# Altium schematic symbol library NtentePoC.SchLib: 37 symbols (part 1 of 2)
Pins are listed as number, name and electrical type; pins without a type are passive.

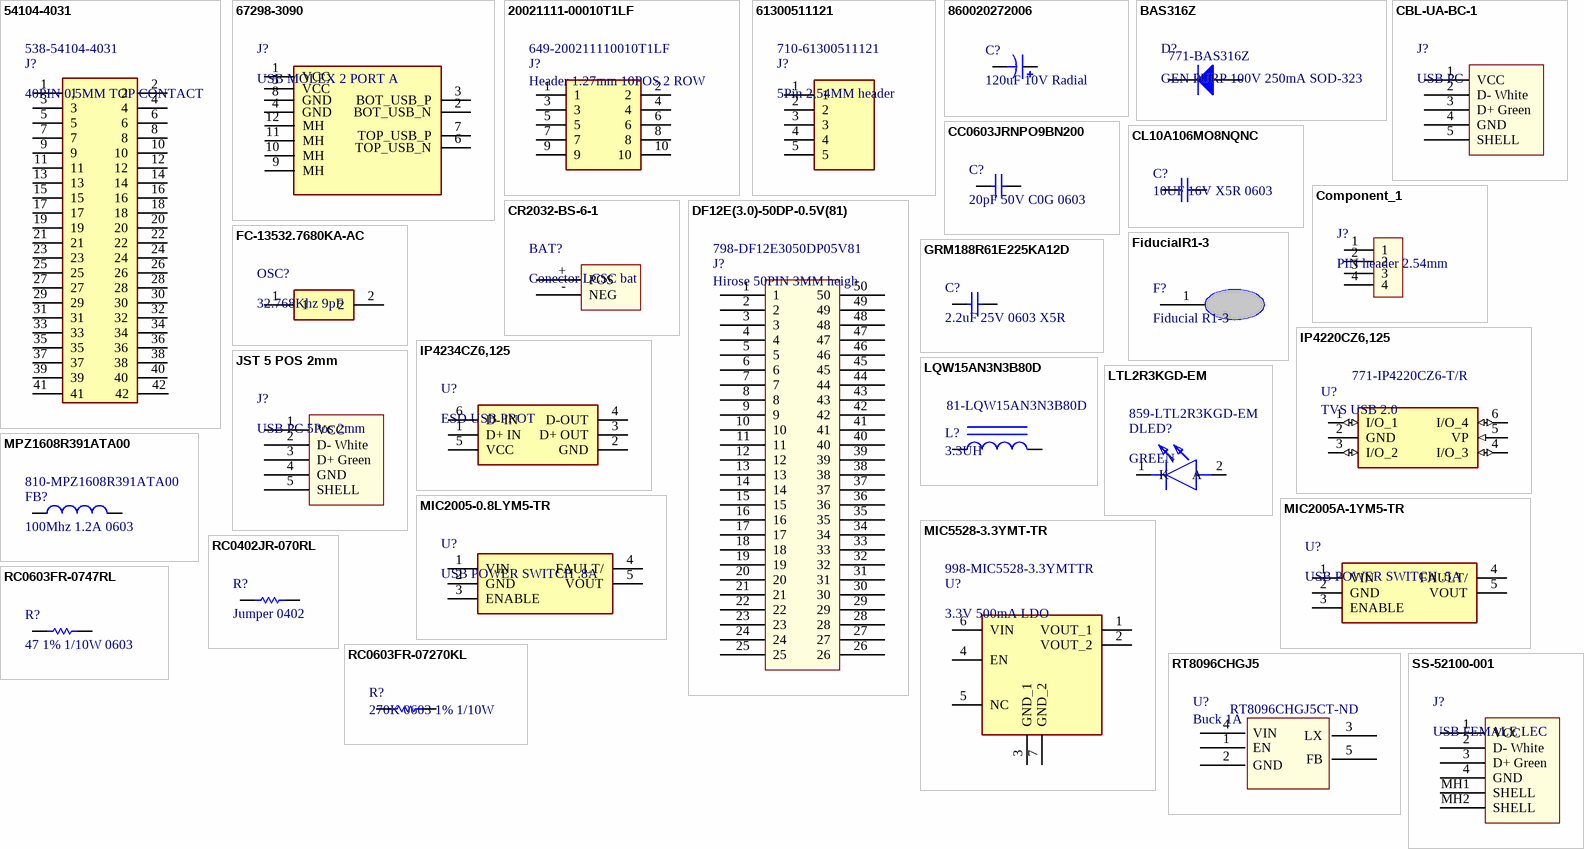
[diagram p0: symbols 54104-4031 to SS-52100-001]

## 54104-4031
designator J?, comment 40PIN 0,5MM TOP CONTACT  Supplier Part Number 1: 538-54104-4031
Conn FPC Connector SKT 40 POS 0.5mm Solder RA SMD Easy-On™ T/R; Manufacturer: Molex; Manufacturer Part Number: 54104-4031; Actuator Material: Glass,Polyphenylene; Voltage Rating: 50V; Contact Resistance: 20mR; Current Rating: 500mA; Number of Positions: 40; Wire/Cable Type: Straight; Mating Cycles: 20; Supplier 1: Mouser; RoHS: Yes; Category: FFC / FPC; Stock 1: 6306; Mount: Surface Mount; Contact Material: Bronze; Contact Plating: Gold; Housing Color: Natural; Housing Material: Nylon; Min Operating Temperature: -20°C; Max Operating Temperature: 85°C; Packaging: Tape and Reel; Number of Rows: 1; Termination: Solder; Orientation: Right Angle; Package Quantity: 1500; Length: 25.5mm; Pitch: 0.5mm; Depth: 5.6mm; Radiation Hardening: No; Flammability Rating: UL94 V-0; ComponentLink1URL: https://datasheet.ciiva.com/671/541045031-sd-671622.pdf?src-supplier=Digi-Key; ComponentLink1Description: https://datasheet.ciiva.com/671/541045031-sd-671622.pdf?src-supplier=Digi-Key; ComponentLink2URL: https://datasheet.ciiva.com/16468/0541044031-ffc-fpc-connectors-16468800.pdf?src-supplier=Avnet+Asia; ComponentLink2Description: https://datasheet.ciiva.com/16468/0541044031-ffc-fpc-connectors-16468800.pdf?src-supplier=Avnet+Asia; ComponentLink3URL: https://datasheet.ciiva.com/26934/getdatasheetpartid-757648-26934644.pdf?src-supplier=Verical; ComponentLink3Description: https://datasheet.ciiva.com/26934/getdatasheetpartid-757648-26934644.pdf?src-supplier=Verical; ComponentLink4URL: https://datasheet.ciiva.com/25291/1597087-25291974.pdf?src-supplier=Newark; ComponentLink4Description: https://datasheet.ciiva.com/25291/1597087-25291974.pdf?src-supplier=Newark; ComponentLink5URL: https://datasheet.ciiva.com/11745/0900766b80d5c350-11745166.pdf?src-supplier=RSComponents; ComponentLink5Description: https://datasheet.ciiva.com/11745/0900766b80d5c350-11745166.pdf?src-supplier=RSComponents; ComponentLink6URL: https://datasheet.ciiva.com/10366/0541044031-ffc-fpc-connectors-10366824.pdf?src-supplier=Avnet; ComponentLink6Description: https://datasheet.ciiva.com/10366/0541044031-ffc-fpc-connectors-10366824.pdf?src-supplier=Avnet; ComponentLink7URL: https://datasheet.ciiva.com/672/541044031-sd-672267.pdf?src-supplier=Digi-Key; ComponentLink7Description: https://datasheet.ciiva.com/672/541044031-sd-672267.pdf?src-supplier=Digi-Key; ComponentLink8URL: https://datasheet.ciiva.com/672/541044031-sd-672268.pdf?src-supplier=Digi-Key; ComponentLink8Description: https://datasheet.ciiva.com/672/541044031-sd-672268.pdf?src-supplier=Digi-Key
footprint 54104-4031
pins: 1, 2, 3, 4, 5, 6, 7, 8, 9, 10, 11, 12, 13, 14, 15, 16, 17, 18, 19, 20, 21, 22, 23, 24, 25, 26, 27, 28, 29, 30, 31, 32, 33, 34, 35, 36, 37, 38, 39, 40, 41, 42

## 67298-3090
designator J?, comment USB MOLEX 2 PORT A
Connector Moles type A 2 puertos; Manufacturer_Part_Number: 67298-3090; Datasheet Link: http://docs-emea.rs-online.com/webdocs/13c4/0900766b813c46d1.pdf; Manufacturer_Name: Molex; Mouser Part Number: 538-67298-3090; Mouser Price/Stock: https://www.mouser.com/Search/Refine.aspx?Keyword=538-67298-3090; RS Part Number: 8006848; RS Price/Stock: https://uk.rs-online.com/web/p/products/8006848
footprint MOLEX-DUALUSB
pins: 1 VCC, 2 BOT_USB_N, 3 BOT_USB_P, 4 GND, 5 VCC, 6 TOP_USB_N, 7 TOP_USB_P, 8 GND, 9 MH, 10 MH, 11 MH, 12 MH

## 20021111-00010T1LF
designator J?, comment Header 1.27mm 10POS 2 ROW  Supplier Part Number 1: 649-200211110010T1LF
Conn Unshrouded Header HDR 10 POS 1.27mm Solder ST Thru-Hole Tube; Manufacturer 1: Amphenol FCI; Manufacturer Part Number 1: 20021111-00010T1LF; Number of Contacts: 10; Contact Resistance: 30mR; Max Voltage Rating (AC): 125V; Connector Type: Male Pin; Row Spacing: 0.05inch; Contact Post Length: 2.3mm; Supplier 1: Mouser; Stock 1: 552; Pricing 1: 1=0,62000, 10=0,46900, 100=0,44900, 500=0,39100, 1000=0,32200, 2500=0,29300, 5000=0,28300 (USD); RoHS: Yes; Mount: Through Hole; Contact Plating: Gold; Color: Black; Contact Material: Copper Alloy; Housing Color: Black; Housing Material: Thermoplastic; Min Operating Temperature: -40°C; Max Operating Temperature: 85°C; Number of Rows: 2; Termination: Solder; Package Quantity: 93; Packaging: Rail/Tube; Number of Positions: 10; Orientation: Straight; Length: 6.35mm; Pitch: 1.27mm; Contact Mating Length: 0.12inch; Depth: 3.4mm; ComponentLink1URL: http://www.mouser.com/ds/2/154/minitek127_catalogue-79600.pdf?src-supplier=Mouser; ComponentLink1Description: http://www.mouser.com/ds/2/154/minitek127_catalogue-79600.pdf?src-supplier=Mouser; ComponentLink2URL: http://components.arrow.com/part/dataview/0323_00886572?src-supplier=Arrow+Europe; ComponentLink2Description: http://components.arrow.com/part/dataview/0323_00886572?src-supplier=Arrow+Europe; ComponentLink3URL: http://components.arrow.com/part/dataview/48961252S8521297N8314?src-supplier=Arrow; ComponentLink3Description: http://components.arrow.com/part/dataview/48961252S8521297N8314?src-supplier=Arrow; ComponentLink4URL: http://portal.fciconnect.com/Comergent//fci/drawing/20021111.pdf?src-supplier=Digi-Key; ComponentLink4Description: http://portal.fciconnect.com/Comergent//fci/drawing/20021111.pdf?src-supplier=Digi-Key; ComponentLink5URL: http://portal.fciconnect.com/Comergent/fci/drawing/20021111.pdf?src-supplier=Avnet; ComponentLink5Description: http://portal.fciconnect.com/Comergent/fci/drawing/20021111.pdf?src-supplier=Avnet
footprint 20021111-00010T1LF
pins: 1, 2, 3, 4, 5, 6, 7, 8, 9, 10

## 61300511121
designator J?, comment 5Pin 2,54MM header  Supplier Part Number 1: 710-61300511121
WURTH ELEKTRONIK - 61300511121 - Pin Header, Board-to-Board, 2.54 mm, 1 Rows, 5 Contacts, Through Hole, WR-PHD Series; Manufacturer: Wurth Electronics; Number of Positions: 5; Gender: Male; Connector Type: Male Pin; Pitch: 0.1inch; Supplier 1: Mouser; Manufacturer Part Number: 61300511121; RoHS: Yes; Category: Connectors; Stock 1: 10312; Mount: Through Hole; Contact Plating: Gold; Contact Material: Copper; Color: Black; Number of Rows: 1; Packaging: Bulk; Termination: Solder; Number of Contacts: 5; Contact Mating Length: 0.236inch; REACH SVHC: Unknown; Lead Free: Lead Free; ComponentLink1URL: https://katalog.we-online.de/em/datasheet/6130xx11121.pdf?src-supplier=Digi-Key; ComponentLink1Description: https://katalog.we-online.de/em/datasheet/6130xx11121.pdf?src-supplier=Digi-Key; ComponentLink2URL: http://www.farnell.com/cad/1737268.pdf?src-supplier=Element14; ComponentLink2Description: http://www.farnell.com/cad/1737268.pdf?src-supplier=Element14
footprint 61300511121
pins: 1, 2, 3, 4, 5

## 860020272006
designator C?, comment 120uF 10V Radial
CAP ALUM 120UF 20% 10V RADIAL; Manufacturer: Wurth Electronics; Manufacturer Part Number: 860020272006; Polarity: Polar; Ripple Current: 110mA; Life (Hours): 2000Hour; Supplier 1: Mouser; Stock 1: 3882; Pricing 1: 1=0.12, 10=0.12, 50=0.104, 100=0.09, 1000=0.067, 10000=0.067 (USD); Mount: Through Hole; Case/Package: Radial; Min Operating Temperature: -40°C; Max Operating Temperature: 105°C; Package Quantity: 2000; Packaging: Tape and Reel; Capacitance: 120uF; Voltage Rating: 10V; Tolerance: 20%; Lead Pitch: 0.079inch; Height - Seated (Max): 0.492inch; Supplier Part Number 1: 710-860020272006
footprint Radial 860020272006
pins: 1 +, 2 -

## BAS316Z
designator D?, comment GEN PURP 100V 250mA SOD-323  Supplier Part Number 1: 771-BAS316Z
DIODE GEN PURP 100V 250MA SC76-2; Manufacturer: Nexperia; Manufacturer Part Number: BAS316Z; Supplier 1: Mouser; RoHS: No; Stock 1: 37210; Pricing 1: 1 = 0.14000, 10 = 0.11900, 50 = 0.11900, 100 = 0.04200, 1000 = 0.02800, 10000 = 0.01900 (USD); ComponentLink1URL: https://assets.nexperia.com/documents/data-sheet/BAS16_SER.pdf?src-supplier=Digi-Key; ComponentLink1Description: https://assets.nexperia.com/documents/data-sheet/BAS16_SER.pdf?src-supplier=Digi-Key
footprint SOD-323
pins: 1 K, 2 A

## CBL-UA-BC-1
designator J?, comment USB PC
USB Cable, Type A Plug to Blunt Cut Cable, 28 AWG, 1 m, Black, PVC; Manufacturer: CUI; Manufacturer Part Number: CBL-UA-BC-1; Supplier 1: Mouser; Stock 1: 468; Pricing 1: 1 = 1.84000, 10 = 1.66000, 50 = 1.50000, 100 = 1.43000, 1000 = 1.02000, 10000 = 0.95400 (USD); ComponentLink1URL: http://datasheet.octopart.com/CBL-UA-BC-1-CUI-datasheet-127148343.pdf?src-supplier=CUI; ComponentLink1Description: http://datasheet.octopart.com/CBL-UA-BC-1-CUI-datasheet-127148343.pdf?src-supplier=CUI; Supplier Part Number 1: 490-CBL-UA-BC-1
footprint CBL-UA-BC-1
pins: 1 VCC, 2 D- White, 3 D+ Green, 4 GND, 5 SHELL

## CC0603JRNPO9BN200
designator C?, comment 20pF 50V C0G 0603
CAP CER 20PF 50V C0G/NPO 0603; Manufacturer: Yageo; Manufacturer Part Number: CC0603JRNPO9BN200; Tolerance: 5%; Supplier 1: Mouser; RoHS: Yes; Stock 1: 54304; Pricing 1: 1 = 0,10000, 10 = 0,05900, 50 = 0,05900, 100 = 0,02600, 1000 = 0,02100, 10000 = 0,01400 (USD); Mount: Surface Mount; Case/Package: 0603; Number of Pins: 2; Weight: 7.1E-05oz; Case Code (Imperial): 0603; Case Code (Metric): 1608; Min Operating Temperature: -55°C; Max Operating Temperature: 125°C; Capacitance: 20pF; Package Quantity: 4000; Voltage Rating (DC): 50V; Packaging: Tape and Reel; Voltage Rating: 50V; Dielectric: C0G; Termination: SMD/SMT; Composition: Ceramic; Length: 1.6mm; Width: 0.8mm; Thickness: 0.035inch; Depth: 0.8mm; REACH SVHC: Unknown; Lead Free: Lead Free; ComponentLink1URL: https://datasheet.ciiva.com/7978/1132289-7978134.pdf?src-supplier=Element14; ComponentLink1Description: https://datasheet.ciiva.com/7978/1132289-7978134.pdf?src-supplier=Element14; ComponentLink2URL: https://datasheet.ciiva.com/176/mlccorderingcode-176538.pdf?src-supplier=Digi-Key; ComponentLink2Description: https://datasheet.ciiva.com/176/mlccorderingcode-176538.pdf?src-supplier=Digi-Key; ComponentLink3URL: https://datasheet.ciiva.com/176/mlccorderingcode-176539.pdf?src-supplier=Digi-Key; ComponentLink3Description: https://datasheet.ciiva.com/176/mlccorderingcode-176539.pdf?src-supplier=Digi-Key; ComponentLink4URL: https://datasheet.ciiva.com/176/mlccorderingcode-176540.pdf?src-supplier=Digi-Key; ComponentLink4Description: https://datasheet.ciiva.com/176/mlccorderingcode-176540.pdf?src-supplier=Digi-Key; Supplier Part Number 1: 603-C0603JRNPO9BN200
footprint C 0603/1608
pins: 1, 2

## CL10A106MO8NQNC
designator C?, comment 10UF 16V X5R 0603
CAP CER 10UF 16V X5R 0603; Manufacturer 1: Samsung; Manufacturer Part Number 1: CL10A106MO8NQNC; Material: Ceramic; Tolerance: 20%; Supplier 1: Digi-Key; Stock 1: 153308; Pricing 1: 1=1,37000, 10=1,08200, 100=0,81120, 500=0,61290, 1000=0,54079 (USD); RoHS: Yes; Mount: Surface Mount; Case/Package: 0603; Case Code (Metric): 1608; Case Code (Imperial): 0603; Min Operating Temperature: -55°C; Max Operating Temperature: 85°C; Capacitance: 10uF; Dielectric: X5R; Packaging: Tape and Reel; Voltage Rating: 16V; Length: 1.6mm; Height: 0.8mm; Width: 0.031inch; Thickness: 0.035inch; Depth: 0.8mm; Radiation Hardening: No; Lead Free: Lead Free; ComponentLink1URL: https://datasheet.ciiva.com/25711/cl10a106mo8nqnc-25711536.pdf?src-supplier=Digi-Key; ComponentLink1Description: https://datasheet.ciiva.com/25711/cl10a106mo8nqnc-25711536.pdf?src-supplier=Digi-Key; ComponentLink2URL: https://datasheet.ciiva.com/26838/getdatasheetpartid-746571-26838345.pdf?src-supplier=Verical; ComponentLink2Description: https://datasheet.ciiva.com/26838/getdatasheetpartid-746571-26838345.pdf?src-supplier=Verical; ComponentLink3URL: https://datasheet.ciiva.com/29198/457342-da-01-en-vs-kondensator-0603-29198787.pdf?src-supplier=Conrad; ComponentLink3Description: https://datasheet.ciiva.com/29198/457342-da-01-en-vs-kondensator-0603-29198787.pdf?src-supplier=Conrad; Supplier Part Number 1: 1276-1870-1-ND
footprint C 0603/1608
pins: 1, 2

## Component_1
designator J?, comment PIN header 2.54mm
4 in ROW ad manual
footprint Header 4Pos 2.54mm
pins: 1, 2, 3, 4

## CR2032-BS-6-1
designator BAT?, comment Conector LCSC bat
https://lcsc.com/product-detail/Battery-Holders-Clips-Contacts_Button-battery-holder-CR2032_C70377.html
footprint CR2032-BS-6-1 (LCSC https://lcsc.com/product-detail/Battery-Holders-Clips-Contacts_Button-battery-holder-CR2032_C70377.html)
pins: + POS, - NEG

## DF12E(3.0)-50DP-0.5V(81)
designator J?, comment Hirose 50PIN 3MM heigh  Supplier Part Number 1: 798-DF12E3050DP05V81
CONN HEADER 50POS 3MM SMD 0.5MM; Manufacturer Part Number 1: DF12E(3.0)-50DP-0.5V(81); Current Rating: 300mA; Number of Positions: 50; Voltage Rating: 50V; Gender: Male; Supplier 1: Mouser; Manufacturer 1: Hirose; Stock 1: 1511; Pricing 1: 1=2,27000, 10=2,02000, 25=1,85000, 100=1,77000, 250=1,60000, 500=1,48000 (USD); RoHS: Yes; Mount: Surface Mount; Contact Plating: Gold; Contact Material: Copper,Copper Alloy; Housing Color: Beige; Housing Material: Polyamide; Number of Rows: 2; Termination: Solder; Package Quantity: 1; Packaging: Tape and Reel; Number of Contacts: 50; Orientation: Straight; Pitch: 0.5mm; Mated Stacking Heights: 3mm; Radiation Hardening: No; Lead Free: Lead Free; Flammability Rating: UL94 V-0; REACH SVHC: No SVHC; ComponentLink1URL: https://datasheet.ciiva.com/11746/0900766b8118d31d-11746934.pdf?src-supplier=RSComponents; ComponentLink1Description: https://datasheet.ciiva.com/11746/0900766b8118d31d-11746934.pdf?src-supplier=RSComponents; ComponentLink2URL: https://datasheet.ciiva.com/5131/en-df12-20130411-5131336.pdf?src-supplier=Mouser; ComponentLink2Description: https://datasheet.ciiva.com/5131/en-df12-20130411-5131336.pdf?src-supplier=Mouser; ComponentLink3URL: https://datasheet.ciiva.com/16431/en-df12-20130411-16431976.pdf?src-supplier=Future+Electronics; ComponentLink3Description: https://datasheet.ciiva.com/16431/en-df12-20130411-16431976.pdf?src-supplier=Future+Electronics; ComponentLink4URL: https://datasheet.ciiva.com/22645/1693461-22645083.pdf?src-supplier=Element14; ComponentLink4Description: https://datasheet.ciiva.com/22645/1693461-22645083.pdf?src-supplier=Element14
footprint DF12E(3.0)-50DP-0.5V(81)
pins: 1, 2, 3, 4, 5, 6, 7, 8, 9, 10, 11, 12, 13, 14, 15, 16, 17, 18, 19, 20, 21, 22, 23, 24, 25, 26, 27, 28, 29, 30, 31, 32, 33, 34, 35, 36, 37, 38, 39, 40, 41, 42, 43, 44, 45, 46, 47, 48, 49, 50

## FC-13532.7680KA-AC
designator OSC?, comment 32.768Khz 9pF
CRYSTAL 32.7680KHZ 9PF SMD; Manufacturer: Epson; Manufacturer Part Number: FC-13532.7680KA-AC; ESR (Equivalent Series Resistance): 70kR; Frequency Tolerance: 20ppm; Supplier 1: Mouser; RoHS: Yes; Stock 1: 509; Pricing 1: 1 = 0,38000, 10 = 0,31300, 50 = 0,28200, 100 = 0,25000, 1000 = 0,20000, 10000 = 0,17500 (USD); Mount: Surface Mount; Case/Package: SMD/SMT; Weight: 0.000564oz; Min Operating Temperature: -40°C; Max Operating Temperature: 85°C; Load Capacitance: 9pF; Packaging: Bulk; Frequency: 32.768kHz; Tolerance: 20ppm; Package Quantity: 1; Termination: SMD/SMT; Length: 0.126inch; Height: 0.035inch; Width: 0.059inch; ComponentLink1URL: http://www.mouser.com/ds/2/137/1699449-465441.pdf?src-supplier=Mouser; ComponentLink1Description: http://www.mouser.com/ds/2/137/1699449-465441.pdf?src-supplier=Mouser; ComponentLink2URL: https://support.epson.biz/td/api/doc_check.php?dl=brief_FC-135&lang=en&src-supplier=Digi-Key; ComponentLink2Description: https://support.epson.biz/td/api/doc_check.php?dl=brief_FC-135&lang=en&src-supplier=Digi-Key; ComponentLink3URL: https://support.epson.biz/td/api/doc_check.php?dl=brief_FC-135R_en.pdf&src-supplier=Digi-Key; ComponentLink3Description: https://support.epson.biz/td/api/doc_check.php?dl=brief_FC-135R_en.pdf&src-supplier=Digi-Key; Supplier Part Number 1: 732-FC-13532.768KAAC
footprint FC135327680KAAG0
pins: 1, 2

## FiducialR1-3
designator F?, comment Fiducial R1-3  (no BOM)
Fiducial 1mm 3 mm of peel mask
footprint Fiducial R1-3
pins: 1

## GRM188R61E225KA12D
designator C?, comment 2.2uF 25V 0603 X5R
MURATA - GRM188R61E225KA12D - CONDENSATEUR, 2.2µF, 25V, 10%, X5R, 0603; Material: Ceramic; Supplier 1: Mouser; Manufacturer: Murata; Manufacturer Part Number: GRM188R61E225KA12D; RoHS: Yes; Stock 1: 345006; Pricing 1: 1 = 0,17000, 10 = 0,12200, 50 = 0,12200, 100 = 0,05700, 1000 = 0,03300, 10000 = 0,02300 (USD); Mount: Surface Mount; Case/Package: 0603; Number of Pins: 2; Weight: 0.000222oz; Case Code (Metric): 1608; Case Code (Imperial): 0603; Min Operating Temperature: -55°C; Max Operating Temperature: 85°C; Capacitance: 2.2uF; Tolerance: 10%; Dielectric: X5R; Voltage Rating: 25V; Packaging: Tape and Reel; Voltage: 25V; Termination: SMD/SMT; Composition: Ceramic; Voltage Rating (DC): 25V; Package Quantity: 4000; Length: 1.6mm; Height: 0.8mm; Width: 0.8mm; Thickness: 0.035inch; Depth: 0.8mm; Radiation Hardening: No; REACH SVHC: No SVHC; Lead Free: Lead Free; ComponentLink1URL: https://datasheet.ciiva.com/22706/1747460-22706787.pdf?src-supplier=Element14; ComponentLink1Description: https://datasheet.ciiva.com/22706/1747460-22706787.pdf?src-supplier=Element14; ComponentLink2URL: https://datasheet.ciiva.com/7719/1747460-7719045.pdf?src-supplier=Element14; ComponentLink2Description: https://datasheet.ciiva.com/7719/1747460-7719045.pdf?src-supplier=Element14; ComponentLink3URL: https://datasheet.ciiva.com/14116/grmseries-highdielectrictype-eng-14116409.pdf?src-supplier=Distrelec; ComponentLink3Description: https://datasheet.ciiva.com/14116/grmseries-highdielectrictype-eng-14116409.pdf?src-supplier=Distrelec; Supplier Part Number 1: 81-GRM188R61E225KA2D
footprint C 0603/1608
pins: 1, 2

## IP4220CZ6,125
designator U?, comment TVS USB 2.0  Supplier Part Number 1: 771-IP4220CZ6-T/R
TVS DIODE 5.5V 6TSOP; Manufacturer 1: Philips; Manufacturer Part Number 1: IP4220CZ6,125; Breakdown Voltage: 9V; Supplier 1: Mouser; RoHS: No; Category: Rectifier Diodes; Stock 1: 58080; Pricing 1: 1=0,40000, 10=0,31100, 100=0,16800, 1000=0,12600, 3000=0,10900, 9000=0,10200 (USD); Case/Package: SC; Packaging: Cut Tape; REACH SVHC: No SVHC; Lead Free: Lead Free; ComponentLink1URL: http://www.farnell.com/datasheets/1708221.pdf?src-supplier=Farnell; ComponentLink1Description: http://www.farnell.com/datasheets/1708221.pdf?src-supplier=Farnell; ComponentLink2URL: http://www.farnell.com/datasheets/1708221.pdf?src-supplier=Newark; ComponentLink2Description: http://www.farnell.com/datasheets/1708221.pdf?src-supplier=Newark
footprint SOT95P275X110-6N
pins: 1 I/O_1 (io), 2 GND (power), 3 I/O_2 (io), 4 I/O_3 (io), 5 VP (in), 6 I/O_4 (io)

## IP4234CZ6,125
designator U?, comment ESD USB PROT
TVS DIODE 5.5VWM 6TSOP; Manufacturer: NXP Semiconductors; Manufacturer Part Number: IP4234CZ6,125; Min Breakdown Voltage: 6V; Direction: Unidirectional; Reverse Standoff Voltage: 5.5V; Peak Pulse Power: 100W; Power Line Protection: Yes; Polarity: Bidirectional; Leakage Current: 100nA; Number of Bidirectional Channels: 4; Operating Supply Voltage: 700mV; Capacitance: 40pF; Number of Channels: 2; Max Breakdown Voltage: 9V; Supplier 1: Mouser; RoHS: Yes; Stock 1: 40217; Pricing 1: 1 = 0.39000, 10 = 0.32900, 50 = 0.32900, 100 = 0.20100, 1000 = 0.15500, 10000 = 0.12300 (USD); Mount: Surface Mount; Case/Package: TSOP; Number of Pins: 6; Contact Plating: Tin; Min Operating Temperature: -40°C; Max Operating Temperature: 85°C; Package Quantity: 1; Packaging: Tape and Reel; Breakdown Voltage: 6V; Termination: SMD/SMT; Max Power Dissipation: 100W; Length: 3.1mm; Depth: 1.7mm; Radiation Hardening: No; Lead Free: Lead Free; REACH SVHC: No SVHC; ComponentLink1URL: https://datasheet.ciiva.com/334/ip4234cz6-334656.pdf?src-supplier=Digi-Key; ComponentLink1Description: https://datasheet.ciiva.com/334/ip4234cz6-334656.pdf?src-supplier=Digi-Key; ComponentLink2URL: https://datasheet.ciiva.com/334/ip4234cz6-334655.pdf?src-supplier=Digi-Key; ComponentLink2Description: https://datasheet.ciiva.com/334/ip4234cz6-334655.pdf?src-supplier=Digi-Key; ComponentLink3URL: https://datasheet.ciiva.com/334/ip4234cz6-334657.pdf?src-supplier=Digi-Key; ComponentLink3Description: https://datasheet.ciiva.com/334/ip4234cz6-334657.pdf?src-supplier=Digi-Key; ComponentLink4URL: https://datasheet.ciiva.com/3304/ip4234cz6-3304023.pdf?src-supplier=Avnet; ComponentLink4Description: https://datasheet.ciiva.com/3304/ip4234cz6-3304023.pdf?src-supplier=Avnet; ComponentLink5URL: https://datasheet.ciiva.com/22685/609395-22685834.pdf?src-supplier=Element14; ComponentLink5Description: https://datasheet.ciiva.com/22685/609395-22685834.pdf?src-supplier=Element14; ComponentLink6URL: https://datasheet.ciiva.com/16496/ip4234cz6-16496572.pdf?src-supplier=Future+Electronics; ComponentLink6Description: https://datasheet.ciiva.com/16496/ip4234cz6-16496572.pdf?src-supplier=Future+Electronics; ComponentLink7URL: https://datasheet.ciiva.com/334/ip4234cz6-334654.pdf?src-supplier=Digi-Key; ComponentLink7Description: https://datasheet.ciiva.com/334/ip4234cz6-334654.pdf?src-supplier=Digi-Key; Supplier Part Number 1: 771-IP4234CZ6125
footprint SOT95P275X110-6N
pins: 1 D+ IN, 2 GND, 3 D+ OUT, 4 D-OUT, 5 VCC, 6 D- IN

## JST 5 POS 2mm
designator J?, comment USB PC 5Pos 2mm  (no BOM)
Conector de 2mm de pitch JST; Manufacturer: CUI; Manufacturer Part Number: CBL-UA-BC-1; Supplier 1: Mouser; Stock 1: 468; Pricing 1: 1 = 1.84000, 10 = 1.66000, 50 = 1.50000, 100 = 1.43000, 1000 = 1.02000, 10000 = 0.95400 (USD); ComponentLink1URL: http://datasheet.octopart.com/CBL-UA-BC-1-CUI-datasheet-127148343.pdf?src-supplier=CUI; ComponentLink1Description: http://datasheet.octopart.com/CBL-UA-BC-1-CUI-datasheet-127148343.pdf?src-supplier=CUI; Supplier Part Number 1: 490-CBL-UA-BC-1
footprint JST 5Pos 2mm
pins: 1 VCC, 2 D- White, 3 D+ Green, 4 GND, 5 SHELL

## LQW15AN3N3B80D
designator L?, comment 3.3UH  Supplier Part Number 1: 81-LQW15AN3N3B80D
FIXED IND 3.3NH 2A 30 MOHM SMD; Manufacturer 1: Murata; Manufacturer Part Number 1: LQW15AN3N3B80D; Core Material: Non-Magnetic; Shielding: Unshielded; DC Resistance (DCR): 30mR; Self Resonant Frequency: 14GHz; Q Factor: 30; Test Frequency: 100MHz; Supplier 1: Mouser; Stock 1: 19323; Pricing 1: 1=0,26000, 10=0,22100, 100=0,15200, 500=0,13000, 1000=0,09900, 2500=0,08600 (USD); RoHS: Yes; Mount: Surface Mount; Case/Package: 0402; Case Code (Metric): 1005; Case Code (Imperial): 0402; Min Operating Temperature: -55°C; Max Operating Temperature: 125°C; Packaging: Tape and Reel; Package Quantity: 10000; Current Rating: 2A; Inductance: 3.3nH; Max DC Current: 2A; Termination: SMD/SMT; Composition: Wirewound; Length: 0.039inch; Height: 0.5mm; Width: 0.5mm; Height - Seated (Max): 0.024inch; ComponentLink1URL: https://datasheet.ciiva.com/24051/product-260771-24051531.pdf?src-supplier=Mouser; ComponentLink1Description: https://datasheet.ciiva.com/24051/product-260771-24051531.pdf?src-supplier=Mouser; ComponentLink2URL: https://datasheet.ciiva.com/29691/l0075e-29691118.pdf?src-supplier=Digi-Key; ComponentLink2Description: https://datasheet.ciiva.com/29691/l0075e-29691118.pdf?src-supplier=Digi-Key; ComponentLink3URL: https://datasheet.ciiva.com/29691/l0075e-29691119.pdf?src-supplier=Digi-Key; ComponentLink3Description: https://datasheet.ciiva.com/29691/l0075e-29691119.pdf?src-supplier=Digi-Key; ComponentLink4URL: https://datasheet.ciiva.com/29693/l0075e-29693327.pdf?src-supplier=Digi-Key; ComponentLink4Description: https://datasheet.ciiva.com/29693/l0075e-29693327.pdf?src-supplier=Digi-Key
footprint L 0402/1005
pins: 1, 2

## LTL2R3KGD-EM
designator DLED?, comment GREEN  Supplier Part Number 1: 859-LTL2R3KGD-EM
LED GREEN DIFFUSED T-1 3/4 T/H; Manufacturer: Vishay Lite-On; Manufacturer Part Number: LTL2R3KGD-EM; Lens Style: Diffused,Colored,Circular; Luminous Intensity: 38mcd; Test Current: 2mA; Forward Voltage: 1.8V; Viewing Angle: 30°; Dominant Wavelength: 570nm; Number of LEDs: 1; Supplier 1: Mouser; Stock 1: 12600; Pricing 1: 1=0.1, 10=0.091, 50=0.091, 100=0.079, 1000=0.06, 10000=0.046 (USD); Mount: Through Hole; Case/Package: Radial; Number of Pins: 2; Color: Green; Lens Color: Green; Packaging: Bulk; Package Quantity: 1000; Lens Transparency: Diffused; Height: 8.7mm; Radiation Hardening: No; ComponentLink1URL: https://media.digikey.com/pdf/Data%20Sheets/Lite-On%20PDFs/LTL2R3KGD-EM%20Preliminary.pdf?src-supplier=Digi-Key; ComponentLink1Description: https://media.digikey.com/pdf/Data%20Sheets/Lite-On%20PDFs/LTL2R3KGD-EM%20Preliminary.pdf?src-supplier=Digi-Key
footprint LTL2R3KGDEM
pins: 1 K, 2 A

## MIC2005-0.8LYM5-TR
designator U?, comment USB POWER SWITCH .8A
USB Power SW Hi Side/DIST Single 5.5V 0.8A 5-Pin SOT-23 T/R; Manufacturer: Microchip; Manufacturer Part Number: MIC2005-0.8LYM5-TR; Supplier 1: Mouser; RoHS: Yes; Category: Hot Swap Controllers; Stock 1: 2921; ComponentLink1URL: https://datasheet.ciiva.com/16452/mic20xx-16452175.pdf?src-supplier=Future+Electronics; ComponentLink1Description: https://datasheet.ciiva.com/16452/mic20xx-16452175.pdf?src-supplier=Future+Electronics; Supplier Part Number 1: 998-MIC20050.8LYM5TR
footprint SOT95P280X130-5N
pins: 1 VIN, 2 GND, 3 ENABLE, 4 FAULT/, 5 VOUT

## MIC2005A-1YM5-TR
designator U?, comment USB POWER SWITCH .5A
USB Power SW Hi Side/DIST Single 5.5V 0.5A 5-Pin SOT-23 T/R; Manufacturer: Microchip Micrel; Manufacturer Part Number: MIC2005A-1YM5-TR; Number of Outputs: 1; Interface: On/Off; Max Output Current: 500mA; On-State Resistance: 170mR; Fault Protection: Over Temperature; Output Configuration: High Side; Min Input Voltage: 2.5V; Nominal Supply Current: 300uA; Turn-On Delay Time: 1500us; Supplier 1: Mouser; Stock 1: 9234; Pricing 1: 1=0.28, 10=0.28, 50=0.236, 100=0.216, 1000=0.216, 10000=0.216 (USD); Mount: Surface Mount; Case/Package: SOT-23; Number of Pins: 5; Min Operating Temperature: -40°C; Max Operating Temperature: 85°C; Packaging: Tape and Reel; Package Quantity: 3000; Max Input Voltage: 5.5V; Min Supply Voltage: 2.5V; Max Supply Voltage: 5.5V; Current Rating: 500mA; Length: 2.9mm; Height: 1.3mm; Width: 1.75mm; REACH SVHC: No SVHC; Lead Free: Lead Free; ComponentLink1URL: http://www.micrel.com/_PDF/mic20xx.pdf?src-supplier=Future+Electronics; ComponentLink1Description: http://www.micrel.com/_PDF/mic20xx.pdf?src-supplier=Future+Electronics; Supplier Part Number 1: 998-MIC2005A-1YM5TR
footprint SOT95P280X130-5N
pins: 1 VIN, 2 GND, 3 ENABLE, 4 FAULT/, 5 VOUT

## MIC5528-3.3YMT-TR
designator U?, comment 3.3V 500mA LDO  Supplier Part Number 1: 998-MIC5528-3.3YMTTR
IC REG LINEAR 3.3V 500MA 6TDFN; Manufacturer: Microchip; Manufacturer Part Number: MIC5528-3.3YMT-TR; Dropout Voltage: 260mV; Number of Regulators: 1; Min Current Limit: 525mA; Supplier 1: Mouser; RoHS: Yes; Stock 1: 17807; Pricing 1: 1 = 0.190000, 10 = 0.190000, 50 = 0.164000, 100 = 0.144000, 1000 = 0.144000, 10000 = 0.144000 (USD); Mount: Surface Mount; Min Operating Temperature: -40°C; Max Operating Temperature: 125°C; Output Current: 500mA; Packaging: Tape and Reel; Output Voltage: 3.3V; ComponentLink1URL: http://www.microchip.com/mymicrochip/filehandler.aspx?ddocname=en580311&src-supplier=Digi-Key; ComponentLink1Description: http://www.microchip.com/mymicrochip/filehandler.aspx?ddocname=en580311&src-supplier=Digi-Key
footprint SON40P120X120X60-7N-D
pins: 1 VOUT_1, 2 VOUT_2, 3 GND_1, 4 EN, 5 NC, 6 VIN, 7 GND_2

## MPZ1608R391ATA00
designator FB?, comment 100Mhz 1.2A 0603  Supplier Part Number 1: 810-MPZ1608R391ATA00
TDK - MPZ1608R391ATA00 - FERRITE BEAD, 0.12OHM, 1.2A, 0603; Impedance: 390R; Tolerance: 25%; DC Resistance (DCR): 120mR; Supplier 1: Mouser; Manufacturer: TDK; Manufacturer Part Number: MPZ1608R391ATA00; RoHS: Yes; Stock 1: 94942; Pricing 1: 1 = 0,10000, 10 = 0,07900, 50 = 0,07900, 100 = 0,03400, 1000 = 0,02700, 10000 = 0,01800 (USD); Mount: Surface Mount; Case/Package: 0603; Number of Pins: 2; Case Code (Metric): 1608; Case Code (Imperial): 0603; Core Material: Ferrite; Package Quantity: 4000; Packaging: Tape and Reel; Current Rating: 1.2A; Max DC Current: 1.2A; Length: 0.063inch; Height: 0.037inch; Width: 0.031inch; REACH SVHC: No SVHC; Lead Free: Lead Free; ComponentLink1URL: https://datasheet.ciiva.com/46381/1486324-46381653.pdf?src-supplier=Element14; ComponentLink1Description: https://datasheet.ciiva.com/46381/1486324-46381653.pdf?src-supplier=Element14; ComponentLink2URL: https://datasheet.ciiva.com/46634/beads-commercial-power-mpz-en-46634341.pdf?src-supplier=Digi-Key; ComponentLink2Description: https://datasheet.ciiva.com/46634/beads-commercial-power-mpz-en-46634341.pdf?src-supplier=Digi-Key; ComponentLink3URL: https://datasheet.ciiva.com/46634/beads-commercial-power-mpz-en-46634344.pdf?src-supplier=Digi-Key; ComponentLink3Description: https://datasheet.ciiva.com/46634/beads-commercial-power-mpz-en-46634344.pdf?src-supplier=Digi-Key; ComponentLink4URL: https://datasheet.ciiva.com/8077/55167-8077067.pdf?src-supplier=Element14; ComponentLink4Description: https://datasheet.ciiva.com/8077/55167-8077067.pdf?src-supplier=Element14; ComponentLink5URL: https://datasheet.ciiva.com/48682/beads-commercial-power-mpz-en-48682491.pdf?src-supplier=Avnet; ComponentLink5Description: https://datasheet.ciiva.com/48682/beads-commercial-power-mpz-en-48682491.pdf?src-supplier=Avnet
footprint R 0603/1608
pins: 1, 2

## RC0402JR-070RL
designator R?, comment Jumper 0402
RES SMD 0 OHM JUMPER 1/16W 0402; Manufacturer: Yageo; Manufacturer Part Number: RC0402JR-070RL; Resistance: 0mR; Power Rating: 62.5mW; Tolerance: 5%; Voltage Rating: 50V; Temperature Coefficient: 200ppm/°C; Max Power Dissipation: 63mW; Supplier 1: Mouser; RoHS: Yes; Stock 1: 7163423; Pricing 1: 1 = 0.10000, 10 = 0.01000, 50 = 0.01000, 100 = 0.00400, 1000 = 0.00300, 10000 = 0.00200 (USD); Case/Package: 0402; Contact Plating: Tin; Case Code (Metric): 1005; Case Code (Imperial): 0402; Min Operating Temperature: -55°C; Max Operating Temperature: 155°C; Composition: Thick Film; Packaging: Tape and Reel; Termination: SMD/SMT; Package Quantity: 1; Number of Terminations: 2; Military Standard: Not; Features: Moisture Resistant; Length: 1mm; Height: 0.016inch; Width: 0.02inch; Depth: 0.5mm; Radiation Hardening: No; Lead Free: Lead Free; REACH SVHC: Unknown; ComponentLink1URL: https://datasheet.ciiva.com/2452/pyu-rc0402-51-rohs-l-6-2452608.pdf?src-supplier=Digi-Key; ComponentLink1Description: https://datasheet.ciiva.com/2452/pyu-rc0402-51-rohs-l-6-2452608.pdf?src-supplier=Digi-Key; ComponentLink2URL: https://datasheet.ciiva.com/11808/0900766b80c66297-11808195.pdf?src-supplier=RSComponents; ComponentLink2Description: https://datasheet.ciiva.com/11808/0900766b80c66297-11808195.pdf?src-supplier=RSComponents; ComponentLink3URL: https://datasheet.ciiva.com/2452/pyu-r-int-thick-7-2452609.pdf?src-supplier=Digi-Key; ComponentLink3Description: https://datasheet.ciiva.com/2452/pyu-r-int-thick-7-2452609.pdf?src-supplier=Digi-Key; ComponentLink4URL: https://datasheet.ciiva.com/2452/pyu-r-int-thick-7-2452610.pdf?src-supplier=Digi-Key; ComponentLink4Description: https://datasheet.ciiva.com/2452/pyu-r-int-thick-7-2452610.pdf?src-supplier=Digi-Key; ComponentLink5URL: https://datasheet.ciiva.com/8896/pyu-rc0402-51-rohs-l-6-8896201.pdf?src-supplier=Avnet; ComponentLink5Description: https://datasheet.ciiva.com/8896/pyu-rc0402-51-rohs-l-6-8896201.pdf?src-supplier=Avnet; ComponentLink6URL: https://datasheet.ciiva.com/28386/pyu-rc0402-51-rohs-l-6-28386633.pdf?src-supplier=Avnet+Europe; ComponentLink6Description: https://datasheet.ciiva.com/28386/pyu-rc0402-51-rohs-l-6-28386633.pdf?src-supplier=Avnet+Europe; ComponentLink7URL: https://datasheet.ciiva.com/22747/1018594-22747515.pdf?src-supplier=Element14; ComponentLink7Description: https://datasheet.ciiva.com/22747/1018594-22747515.pdf?src-supplier=Element14; ComponentLink8URL: https://datasheet.ciiva.com/15189/getdatasheetpartid-326379-15189533.pdf?src-supplier=Verical; ComponentLink8Description: https://datasheet.ciiva.com/15189/getdatasheetpartid-326379-15189533.pdf?src-supplier=Verical; ComponentLink9URL: https://datasheet.ciiva.com/7983/1018594-7983535.pdf?src-supplier=Element14; ComponentLink9Description: https://datasheet.ciiva.com/7983/1018594-7983535.pdf?src-supplier=Element14; Supplier Part Number 1: 603-RC0402JR-070RL
footprint R 0402/1005
pins: 1, 2

## RC0603FR-0747RL
designator R?, comment 47 1% 1/10W 0603
RES SMD 47 OHM 1% 1/10W 0603; Manufacturer: Yageo; Manufacturer Part Number: RC0603FR-0747RL; Resistance: 47R; Power Rating: 100mW; Voltage Rating (DC): 50V; Temperature Coefficient: 100ppm/°C; Voltage Rating: 75V; Supplier 1: Mouser; RoHS: Yes; Stock 1: 1119513; Pricing 1: 1 = 0,10000, 10 = 0,01800, 50 = 0,01800, 100 = 0,00600, 1000 = 0,00500, 10000 = 0,00300 (USD); Case/Package: 0603; Number of Pins: 2; Weight: 7.1E-05oz; Case Code (Imperial): 0603; Case Code (Metric): 1608; Min Operating Temperature: -55°C; Max Operating Temperature: 155°C; Tolerance: 1%; Packaging: Tape and Reel; Package Quantity: 1; Termination: SMD/SMT; Composition: Thick Film; Number of Terminations: 2; Military Standard: Not; Max Power Dissipation: 100mW; Features: Moisture Resistant; Length: 1.6mm; Height: 0.45mm; Width: 0.8mm; Depth: 0.8mm; REACH SVHC: Unknown; Lead Free: Lead Free; ComponentLink1URL: https://datasheet.ciiva.com/2453/pyu-r-int-thick-7-2453922.pdf?src-supplier=Digi-Key; ComponentLink1Description: https://datasheet.ciiva.com/2453/pyu-r-int-thick-7-2453922.pdf?src-supplier=Digi-Key; ComponentLink2URL: https://datasheet.ciiva.com/2453/pyu-r-int-thick-7-2453923.pdf?src-supplier=Digi-Key; ComponentLink2Description: https://datasheet.ciiva.com/2453/pyu-r-int-thick-7-2453923.pdf?src-supplier=Digi-Key; ComponentLink3URL: https://datasheet.ciiva.com/2453/pyu-r-int-thick-7-2453924.pdf?src-supplier=Digi-Key; ComponentLink3Description: https://datasheet.ciiva.com/2453/pyu-r-int-thick-7-2453924.pdf?src-supplier=Digi-Key; ComponentLink4URL: https://datasheet.ciiva.com/7746/443971-7746363.pdf?src-supplier=Element14; ComponentLink4Description: https://datasheet.ciiva.com/7746/443971-7746363.pdf?src-supplier=Element14; ComponentLink5URL: https://datasheet.ciiva.com/7746/443971-7746364.pdf?src-supplier=Element14; ComponentLink5Description: https://datasheet.ciiva.com/7746/443971-7746364.pdf?src-supplier=Element14; ComponentLink6URL: https://datasheet.ciiva.com/46440/1868787-46440908.pdf?src-supplier=Element14; ComponentLink6Description: https://datasheet.ciiva.com/46440/1868787-46440908.pdf?src-supplier=Element14; Supplier Part Number 1: 603-RC0603FR-0747RL
footprint R 0603/1608
pins: 1, 2

## RC0603FR-07270KL
designator R?, comment 270K 0603 1% 1/10W
RES SMD 270K OHM 1% 1/10W 0603; Manufacturer 1: Yageo; Manufacturer Part Number 1: RC0603FR-07270KL; Power Rating: 100mW; Resistance: 270kR; Voltage Rating: 50V; Temperature Coefficient: 100ppm/°C; Supplier 1: Mouser; Stock 1: 167506; Pricing 1: 1=0,10000, 10=0,01800, 100=0,00600, 1000=0,00500, 5000=0,00300, 10000=0,00300 (USD); RoHS: Yes; Case/Package: 0603; Number of Pins: 2; Case Code (Imperial): 0603; Case Code (Metric): 1608; Min Operating Temperature: -55°C; Max Operating Temperature: 155°C; Packaging: Tape and Reel; Tolerance: 1%; Voltage Rating (DC): 50V; Package Quantity: 1; Termination: SMD/SMT; Composition: Thick Film; Number of Terminations: 2; Military Standard: Not; Max Power Dissipation: 100mW; Features: Moisture Resistant; Length: 1.6mm; Height: 0.022inch; Width: 0.8mm; Depth: 0.8mm; REACH SVHC: Unknown; Lead Free: Lead Free; ComponentLink1URL: https://datasheet.ciiva.com/2454/pyu-r-int-thick-7-2454426.pdf?src-supplier=Digi-Key; ComponentLink1Description: https://datasheet.ciiva.com/2454/pyu-r-int-thick-7-2454426.pdf?src-supplier=Digi-Key; ComponentLink2URL: https://datasheet.ciiva.com/15189/getdatasheetpartid-328862-15189674.pdf?src-supplier=Verical; ComponentLink2Description: https://datasheet.ciiva.com/15189/getdatasheetpartid-328862-15189674.pdf?src-supplier=Verical; ComponentLink3URL: https://datasheet.ciiva.com/2454/pyu-r-int-thick-7-2454427.pdf?src-supplier=Digi-Key; ComponentLink3Description: https://datasheet.ciiva.com/2454/pyu-r-int-thick-7-2454427.pdf?src-supplier=Digi-Key; ComponentLink4URL: https://datasheet.ciiva.com/2454/pyu-r-int-thick-7-2454428.pdf?src-supplier=Digi-Key; ComponentLink4Description: https://datasheet.ciiva.com/2454/pyu-r-int-thick-7-2454428.pdf?src-supplier=Digi-Key; Supplier Part Number 1: 603-RC0603FR-07270KL
footprint R 0603/1608
pins: 1, 2

## RT8096CHGJ5
designator U?, comment Buck 1A  Supplier Part Number 1: RT8096CHGJ5CT-ND
IC REG BUCK ADJ 1A SYNC TSOT23-6; Manufacturer 1: Richtek; Manufacturer Part Number 1: RT8096CHGJ5; Number of Outputs: 1; Min Input Voltage: 2.5V; Max Input Voltage: 6V; Min Output Voltage: 600mV; Max Output Voltage: 3.4V; Switching Frequency: 1.5MHz; Synchronous Rectifier: Yes; Output Type: Adjustable; Output Configuration: Positive; Supplier 1: Digi-Key; Stock 1: 1725; Pricing 1: 1=0,85000, 10=0,76300, 25=0,72400, 100=0,55580, 250=0,49120, 500=0,46536, 1000=0,36194 (USD); RoHS: Yes; Mount: Surface Mount; Case/Package: SOT-23-5; Min Operating Temperature: -40°C; Max Operating Temperature: 85°C; Packaging: Tape and Reel; Output Current: 1A; ComponentLink1URL: http://www.richtek.com/assets/product_file/RT8096C/DS8096C-01.pdf?src-supplier=Digi-Key; ComponentLink1Description: http://www.richtek.com/assets/product_file/RT8096C/DS8096C-01.pdf?src-supplier=Digi-Key
footprint TSOT-23-5
pins: 1 EN, 2 GND, 3 LX, 4 VIN, 5 FB

## SS-52100-001
designator J?, comment USB FEMALE LEC
CONN RCPT USB2.0 TYPEA 4POS R/A; Manufacturer: Bel; Manufacturer Part Number: SS-52100-001; Supplier 1: Mouser; RoHS: No; Stock 1: 5851; Pricing 1: 1 = 0.34000, 10 = 0.32900, 50 = 0.30200, 100 = 0.28800, 1000 = 0.19900, 10000 = 0.19900 (USD); ComponentLink1URL: https://belfuse.com/resources/drawings/stewartconnector/dr-stw-ss-52100-001.pdf?src-supplier=Digi-Key; ComponentLink1Description: https://belfuse.com/resources/drawings/stewartconnector/dr-stw-ss-52100-001.pdf?src-supplier=Digi-Key; Supplier Part Number 1: 530-SS-52100-001
footprint SS52100001
pins: 1 VCC, 2 D- White, 3 D+ Green, 4 GND, MH1 SHELL, MH2 SHELL

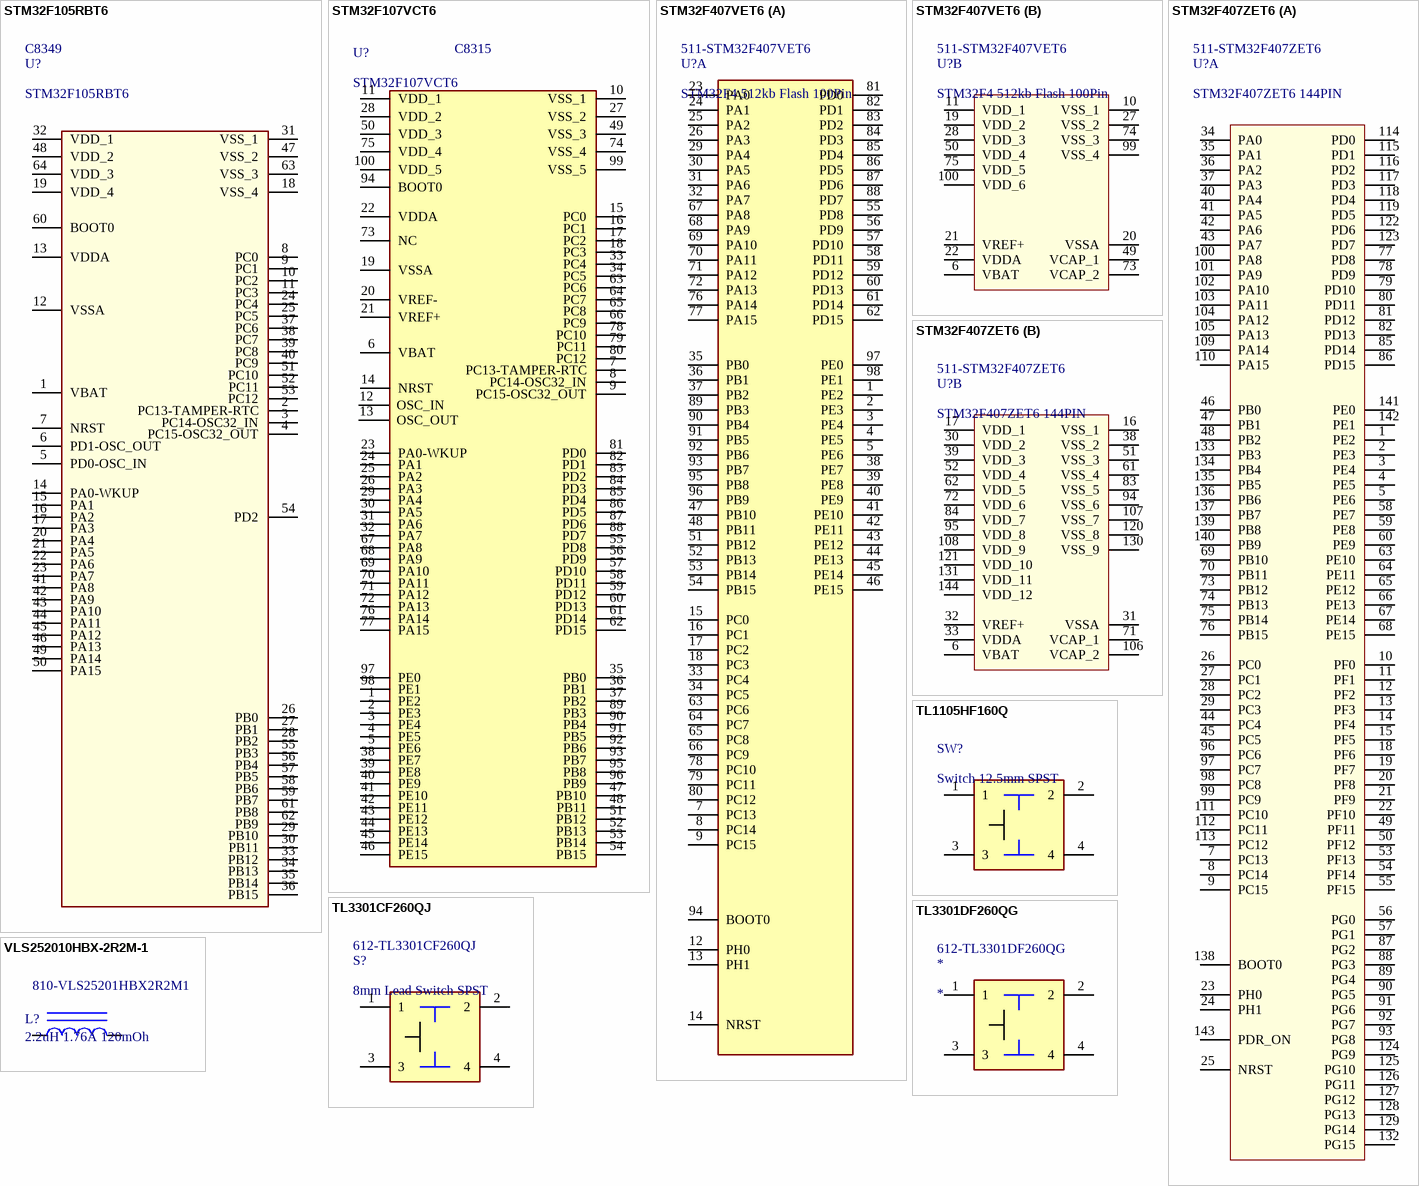
[diagram p1: symbols STM32F105RBT6 to VLS252010HBX-2R2M-1]

## STM32F105RBT6
designator U?  Supplier Part Number 1: C8349
STMICROELECTRONICS - STM32F105RBT6 - 32 Bit Microcontroller, Ethernet MAC, ARM Cortex-M3, 72 MHz, 128 KB, 32 KB, 64, LQFP RoHS Compliant: Yes; Interface: I2C,SPI,CAN,USART,USB,IrDA,UART,LIN,I2S; Number of Timers/Counters: 7; Frequency: 72MHz; RAM Size: 32KB; Max Supply Voltage: 3.6V; Number of I/Os: 51; Max Power Dissipation: 444mW; Min Supply Voltage: 2V; Data Bus Width: 32b; Oscillator Type: Internal; Memory Type: FLASH; Memory Size: 128KB; Peripherals: POR,PWM,WDT,DMA,Voltage Detect,I2C; Number of PWM Channels: 16; Number of SPI Channels: 3; Number of I2C Channels: 2; Supplier 1: LCSC; Manufacturer: STMicroelectronics; Manufacturer Part Number: STM32F105RBT6; RoHS: Yes; Category: Microcontrollers; Stock 1: 124; Pricing 1: 1=3,58890, 10=2,59410, 30=2,41160, 100=2,22910, 500=2,14920, 1000=2,10820, 1=3,45160, 10=2,49490, 30=2,31930, 100=2,14380, 500=2,06700, 1000=2,02750, 1=17,80010, 10=12,86630, 30=11,96100, 100=11,05570, 500=10,65970, 1000=10,45600, 1=16,42420, 10=11,87180, 30=11,03650, 100=10,20120, 500=9,83570, 1000=9,64780, 1=2,20740, 10=1,59560, 30=1,48330, 100=1,37110, 500=1,32190, 1000=1,29670, 1=2,04300, 10=1,47670, 30=1,37280, 100=1,26890, 500=1,22350, 1000=1,20010, 1=20,31810, 10=14,68630, 30=13,65300, 100=12,61970, 500=12,16760, 1000=11,93510, 1=277,02110, 10=200,23710, 30=186,14830, 100=172,05950, 500=165,89570, 1000=162,72570, 1=10,85240, 10=7,84440, 30=7,29240, 100=6,74050, 500=6,49900, 1000=6,37480, 1=197,21070, 10=142,54840, 30=132,51860, 100=122,48880, 500=118,10080, 1000=115,84410, 1=22,99090, 10=16,61830, 30=15,44910, 100=14,27980, 500=13,76820, 1000=13,50510, 1=3,57180, 10=2,58180, 30=2,40010, 100=2,21850, 500=2,13900, 1000=2,09810, 1=2,62167, 10=1,89500, 30=1,76167, 100=1,62833, 500=1,57000, 1000=1,54000 (AUD); Case/Package: LQFP; Number of Pins: 64; Min Operating Temperature: -40°C; Max Operating Temperature: 85°C; Package Quantity: 160; Packaging: Tray; Number of Programmable I/O: 51; Max Frequency: 72MHz; Watchdog Timer: Yes; Core Architecture: ARM; Number of ADC Channels: 16; Density: 128KB; Termination: SMD/SMT; Length: 10mm; Height: 1.45mm; Width: 10mm; Radiation Hardening: No; Lead Free: Lead Free; REACH SVHC: No SVHC; ComponentLink1URL: https://datasheet.ciiva.com/15122/getdatasheetpartid-113902-15122350.pdf?src-supplier=Verical; ComponentLink1Description: https://datasheet.ciiva.com/15122/getdatasheetpartid-113902-15122350.pdf?src-supplier=Verical; ComponentLink2URL: https://datasheet.ciiva.com/26817/stm32f105rbt6-26817326.pdf?src-supplier=IIIC; ComponentLink2Description: https://datasheet.ciiva.com/26817/stm32f105rbt6-26817326.pdf?src-supplier=IIIC; ComponentLink3URL: https://datasheet.ciiva.com/8054/1805458-8054982.pdf?src-supplier=Element14; ComponentLink3Description: https://datasheet.ciiva.com/8054/1805458-8054982.pdf?src-supplier=Element14; ComponentLink4URL: https://datasheet.ciiva.com/48687/001075692-da-01-en-mcu-128kb-mem-stm32f105rbt6-lqfp-64-stm-48687452.pdf?src-supplier=Conrad; ComponentLink4Description: https://datasheet.ciiva.com/48687/001075692-da-01-en-mcu-128kb-mem-stm32f105rbt6-lqfp-64-stm-48687452.pdf?src-supplier=Conrad
footprint QFP50P1200X1200X160-64N
pins: 1 VBAT, 2 PC13-TAMPER-RTC, 3 PC14-OSC32_IN, 4 PC15-OSC32_OUT, 5 PD0-OSC_IN, 6 PD1-OSC_OUT, 7 NRST, 8 PC0, 9 PC1, 10 PC2, 11 PC3, 12 VSSA, 13 VDDA, 14 PA0-WKUP, 15 PA1, 16 PA2, 17 PA3, 18 VSS_4, 19 VDD_4, 20 PA4, 21 PA5, 22 PA6, 23 PA7, 24 PC4, 25 PC5, 26 PB0, 27 PB1, 28 PB2, 29 PB10, 30 PB11, 31 VSS_1, 32 VDD_1, 33 PB12, 34 PB13, 35 PB14, 36 PB15, 37 PC6, 38 PC7, 39 PC8, 40 PC9, 41 PA8, 42 PA9, 43 PA10, 44 PA11, 45 PA12, 46 PA13, 47 VSS_2, 48 VDD_2, 49 PA14, 50 PA15, 51 PC10, 52 PC11, 53 PC12, 54 PD2, 55 PB3, 56 PB4, 57 PB5, 58 PB6, 59 PB7, 60 BOOT0, 61 PB8, 62 PB9, 63 VSS_3, 64 VDD_3

## STM32F107VCT6
designator U?  Supplier Part Number 1: C8315
MCU 32-bit STM32 ARM Cortex M3 RISC 256KB Flash 2.5V/3.3V 100-Pin LQFP Tray; Manufacturer: STMicroelectronics; Interface: I2C,SPI,USB,CAN,Ethernet,IrDA,UART,USART,LIN,I2S; Data Bus Width: 32b; Max Supply Voltage: 3.6V; Frequency: 72MHz; RAM Size: 64KB; Number of Timers/Counters: 7; Number of I/Os: 80; Max Power Dissipation: 434mW; Min Supply Voltage: 2V; Oscillator Type: Internal; Watchdog Timer: Yes; Peripherals: POR,PWM,WDT,DMA,Voltage Detect,I2C; Number of PWM Channels: 16; Number of Ethernet Channels: 1; Number of SPI Channels: 3; Supplier 1: LCSC; Manufacturer Part Number: STM32F107VCT6; RoHS: Yes; Category: Microcontrollers; Stock 1: 6061; Pricing 1: 1=4,85970, 10=4,16380, 30=4,03610, 100=3,90830, 500=3,85130, 1000=3,78280, 1=4,67380, 10=4,00450, 30=3,88160, 100=3,75880, 500=3,70390, 1000=3,63810, 1=24,10310, 10=20,65170, 30=20,01800, 100=19,38430, 500=19,10140, 1000=18,76190, 1=22,24000, 10=19,05540, 30=18,47070, 100=17,88600, 500=17,62500, 1000=17,31170, 1=2,98910, 10=2,56110, 30=2,48250, 100=2,40390, 500=2,36880, 1000=2,32670, 1=2,76640, 10=2,37030, 30=2,29760, 100=2,22480, 500=2,19240, 1000=2,15340, 1=27,51270, 10=23,57310, 30=22,84970, 100=22,12640, 500=21,80350, 1000=21,41600, 1=375,11440, 10=321,40080, 30=311,53860, 100=301,67650, 500=297,27370, 1000=291,99040, 1=14,69520, 10=12,59100, 30=12,20460, 100=11,81830, 500=11,64580, 1000=11,43880, 1=267,04310, 10=228,80460, 30=221,78370, 100=214,76280, 500=211,62850, 1000=207,86730, 1=31,13200, 10=26,67410, 30=25,85560, 100=25,03710, 500=24,67170, 1000=24,23320, 1=4,83660, 10=4,14410, 30=4,01690, 100=3,88970, 500=3,83300, 1000=3,76480, 1=3,55000, 10=3,04167, 30=2,94833, 100=2,85500, 500=2,81333, 1000=2,76333 (AUD); Case/Package: LQFP; Number of Pins: 100; Min Operating Temperature: -40°C; Max Operating Temperature: 85°C; Package Quantity: 90; Core Architecture: ARM; Packaging: Tray; Number of Programmable I/O: 80; Max Frequency: 72MHz; Memory Type: FLASH; Memory Size: 256KB; Number of ADC Channels: 16; Density: 256KB; Termination: SMD/SMT; Number of I2C Channels: 1; Address Bus Width: 32b; Length: 14mm; Height: 1.45mm; Width: 14.2mm; Radiation Hardening: No; REACH SVHC: No SVHC; Lead Free: Lead Free; ComponentLink1URL: https://datasheet.ciiva.com/26817/stm32f107vct6-26817324.pdf?src-supplier=IIIC; ComponentLink1Description: https://datasheet.ciiva.com/26817/stm32f107vct6-26817324.pdf?src-supplier=IIIC; ComponentLink2URL: https://datasheet.ciiva.com/6645/cd00220364-6645767.pdf?src-supplier=Digi-Key; ComponentLink2Description: https://datasheet.ciiva.com/6645/cd00220364-6645767.pdf?src-supplier=Digi-Key; ComponentLink3URL: https://datasheet.ciiva.com/16491/cd00220364-16491000.pdf?src-supplier=Future+Electronics; ComponentLink3Description: https://datasheet.ciiva.com/16491/cd00220364-16491000.pdf?src-supplier=Future+Electronics; ComponentLink4URL: https://datasheet.ciiva.com/4842/cd00220364-490297-4842412.pdf?src-supplier=Mouser; ComponentLink4Description: https://datasheet.ciiva.com/4842/cd00220364-490297-4842412.pdf?src-supplier=Mouser
footprint QFP50P1600X1600X160-100N
pins: 1 PE2, 2 PE3, 3 PE4, 4 PE5, 5 PE6, 6 VBAT (power), 7 PC13-TAMPER-RTC, 8 PC14-OSC32_IN, 9 PC15-OSC32_OUT, 10 VSS_1 (power), 11 VDD_1 (power), 12 OSC_IN, 13 OSC_OUT, 14 NRST, 15 PC0, 16 PC1, 17 PC2, 18 PC3, 19 VSSA (power), 20 VREF- (power), 21 VREF+ (power), 22 VDDA (power), 23 PA0-WKUP, 24 PA1, 25 PA2, 26 PA3, 27 VSS_2 (power), 28 VDD_2 (power), 29 PA4, 30 PA5, 31 PA6, 32 PA7, 33 PC4, 34 PC5, 35 PB0, 36 PB1, 37 PB2, 38 PE7, 39 PE8, 40 PE9, 41 PE10, 42 PE11, 43 PE12, 44 PE13, 45 PE14, 46 PE15, 47 PB10, 48 PB11, 49 VSS_3 (power), 50 VDD_3 (power), 51 PB12, 52 PB13, 53 PB14, 54 PB15, 55 PD8, 56 PD9, 57 PD10, 58 PD11, 59 PD12, 60 PD13, 61 PD14, 62 PD15, 63 PC6, 64 PC7, 65 PC8, 66 PC9, 67 PA8, 68 PA9, 69 PA10, 70 PA11, 71 PA12, 72 PA13, 73 NC, 74 VSS_4 (power), 75 VDD_4 (power), 76 PA14, 77 PA15, 78 PC10, 79 PC11, 80 PC12, 81 PD0, 82 PD1, 83 PD2, 84 PD3, 85 PD4, 86 PD5, 87 PD6, 88 PD7, 89 PB3, 90 PB4, 91 PB5, 92 PB6, 93 PB7, 94 BOOT0, 95 PB8, 96 PB9, 97 PE0, 98 PE1, 99 VSS_5 (power), 100 VDD_5 (power)

## STM32F407VET6
designator U?, comment STM32F4 512kb Flash 100Pin  Supplier Part Number 1: 511-STM32F407VET6
MCU 32-bit STM32F ARM Cortex M4F RISC 512KB Flash 2.5V/3.3V 100-Pin LQFP Tray; Manufacturer: STMicroelectronics; Manufacturer Part Number: STM32F407VET6; Frequency: 168MHz; Number of I/Os: 82; Interface: I2C; Oscillator Type: Internal; Peripherals: Brown-out Detect/Reset; RAM Size: 196KB; Number of ADC Channels: 16; Number of Ethernet Channels: 1; Number of Timers/Counters: 14; Number of UART Channels: 2; Max Supply Voltage: 3.6V; Min Supply Voltage: 1.8V; Data Bus Width: 32b; Number of SPI Channels: 3; Watchdog Timer: Yes; Supplier 1: Mouser; RoHS: Yes; Stock 1: 1283; Pricing 1: 1 = 11.38000, 10 = 10.29000, 50 = 9.81000, 100 = 8.52000, 1000 = 6.46000, 10000 = 6.46000 (USD); Case/Package: LQFP; Number of Pins: 100; Min Operating Temperature: -40°C; Max Operating Temperature: 85°C; Packaging: Tray; Memory Type: FLASH; Memory Size: 512KB; Core Architecture: ARM; Package Quantity: 90; Number of Programmable I/O: 82; Max Frequency: 168MHz; Number of I2C Channels: 3; Number of PWM Channels: 2; Length: 14.2mm; Height: 1.45mm; Width: 14.2mm; Radiation Hardening: No; REACH SVHC: No SVHC; Lead Free: Lead Free; ComponentLink1URL: https://datasheet.ciiva.com/4837/dm00037051-492832-4837637.pdf?src-supplier=Mouser; ComponentLink1Description: https://datasheet.ciiva.com/4837/dm00037051-492832-4837637.pdf?src-supplier=Mouser; ComponentLink2URL: https://datasheet.ciiva.com/16330/dm00037051-16330920.pdf?src-supplier=Future+Electronics; ComponentLink2Description: https://datasheet.ciiva.com/16330/dm00037051-16330920.pdf?src-supplier=Future+Electronics; ComponentLink3URL: https://datasheet.ciiva.com/8055/1717982-8055038.pdf?src-supplier=Element14; ComponentLink3Description: https://datasheet.ciiva.com/8055/1717982-8055038.pdf?src-supplier=Element14
footprint QFP50P1600X1600X160-100N
part A pins: 1 PE2, 2 PE3, 3 PE4, 4 PE5, 5 PE6, 7 PC13, 8 PC14, 9 PC15, 12 PH0, 13 PH1, 14 NRST, 15 PC0, 16 PC1, 17 PC2, 18 PC3, 23 PA0, 24 PA1, 25 PA2, 26 PA3, 29 PA4, 30 PA5, 31 PA6, 32 PA7, 33 PC4, 34 PC5, 35 PB0, 36 PB1, 37 PB2, 38 PE7, 39 PE8, 40 PE9, 41 PE10, 42 PE11, 43 PE12, 44 PE13, 45 PE14, 46 PE15, 47 PB10, 48 PB11, 51 PB12, 52 PB13, 53 PB14, 54 PB15, 55 PD8, 56 PD9, 57 PD10, 58 PD11, 59 PD12, 60 PD13, 61 PD14, 62 PD15, 63 PC6, 64 PC7, 65 PC8, 66 PC9, 67 PA8, 68 PA9, 69 PA10, 70 PA11, 71 PA12, 72 PA13, 76 PA14, 77 PA15, 78 PC10, 79 PC11, 80 PC12, 81 PD0, 82 PD1, 83 PD2, 84 PD3, 85 PD4, 86 PD5, 87 PD6, 88 PD7, 89 PB3, 90 PB4, 91 PB5, 92 PB6, 93 PB7, 94 BOOT0, 95 PB8, 96 PB9, 97 PE0, 98 PE1
part B pins: 6 VBAT, 10 VSS_1 (power), 11 VDD_1 (power), 19 VDD_2 (power), 20 VSSA (power), 21 VREF+, 22 VDDA (power), 27 VSS_2 (power), 28 VDD_3 (power), 49 VCAP_1, 50 VDD_4 (power), 73 VCAP_2, 74 VSS_3 (power), 75 VDD_5 (power), 99 VSS_4 (power), 100 VDD_6 (power)